# Altium schematic symbol library ESP32-H2FH4.SchLib: 1 symbol
Pins are listed as number, name and electrical type; pins without a type are passive.

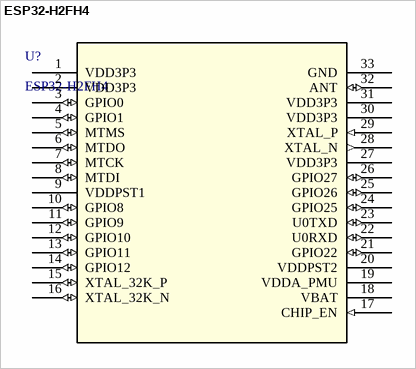
[diagram p0: symbol ESP32-H2FH4]

## ESP32-H2FH4
designator U?
Description; Manufacturer_Name: Espressif Systems; Type: RF; Copyright: Copyright (C) 2025 Ultra Librarian. All rights reserved.; Manufacturer_Part_Number: ESP32-H2FH4; RefDes: RefDes
footprint QFN324X4_EXP
pins: 1 VDD3P3 (power), 2 VDD3P3 (power), 3 GPIO0 (io), 4 GPIO1 (io), 5 MTMS (io), 6 MTDO (io), 7 MTCK (io), 8 MTDI (io), 9 VDDPST1 (power), 10 GPIO8 (io), 11 GPIO9 (io), 12 GPIO10 (io), 13 GPIO11 (io), 14 GPIO12 (io), 15 XTAL_32K_P (io), 16 XTAL_32K_N (io), 17 CHIP_EN (in), 18 VBAT (power), 19 VDDA_PMU (power), 20 VDDPST2 (power), 21 GPIO22 (io), 22 U0RXD (io), 23 U0TXD (io), 24 GPIO25 (io), 25 GPIO26 (io), 26 GPIO27 (io), 27 VDD3P3 (power), 28 XTAL_N (out), 29 XTAL_P (in), 30 VDD3P3 (power), 31 VDD3P3 (power), 32 ANT (io), 33 GND (power)